# Altium schematic symbol library Sonar_Gonderici_Schlib1.SchLib: 14 symbols
Pins are listed as number, name and electrical type; pins without a type are passive.

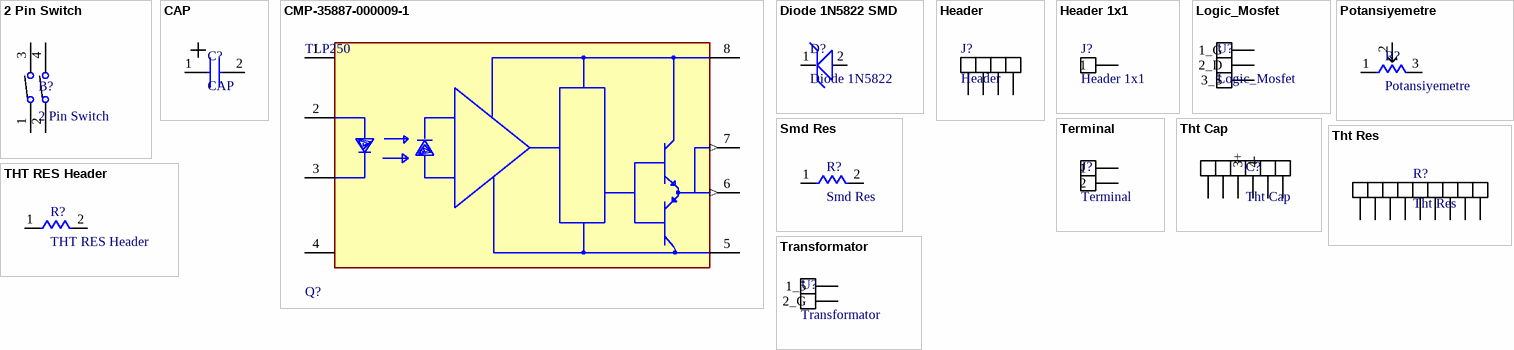
[diagram p0: symbols 2 Pin Switch to Transformator]

## 2 Pin Switch
designator B?
ComponentLink1Description: Satın Alma Linki; ComponentLink1URL: https://www.direnc.net/2-pin-dip-switch
footprint 2 Pin Switch
pins: 1, 2, 3, 4

## CAP
designator C?
Capacitor; ComponentLink1Description: Satın Alma Linki; ComponentLink1URL: https://www.robotistan.com/10nf-seramik-kondansator-paketi-10-adet; ComponentLink2Description: Satın Alma Linki; ComponentLink2URL: https://www.robotistan.com/1nf-seramik-kondansator-paketi-10-adet
footprint Cap 5x10
pins: 1, 2

## CMP-35887-000009-1
designator Q?, comment TLP250
Optocoupler Drive Push-Pull 1-CH 30V 600V 8-Pin PDIP; Manufacturer: TOSHIBA; Standoff Height: 0.55mm; Turn Off Delay Time: 0.15us; Max Junction Temp: +125°C; Power Dissipation: 800mW; Forward Current: 10mA; Reverse Voltage: 5V; Forward Voltage: 1.6V; Isolation Voltage: 2500Vrms; Min Supply Voltage: 10V; ComponentLink2Description: Datasheet; Octopart: https://octopart.com/tlp-250-toshiba-99104964; Automotive: No; Temperature Range High: +85°C; Lead Free: Yes; Package: 11-10C4; Category: Trans; Temperature Range Low: -20°C; Ipc Land Pattern Name: DIP762W50P254L966H445Q8; ComponentLink2URL: https://toshiba.semicon-storage.com/info/docget.jsp?did=16821&prodName=TLP250; Device Class L3: unset; Turn On Delay Time: 0.15us; Device Class L2: Optocouplers; Manufacturer Part Number: TLP250; Max Supply Voltage: 30V; Height: 4.85mm; Device Class L1: Optoelectronics; Temperature: -20°C to +85°C; RoHS: TRUE
footprint FP-11-10C4-MFG
pins: 1 NC, 2 A, 3 C, 4 NC, 5 GND (power), 6 VO(Output) (out), 7 VO (out), 8 VCC (power)

## Diode 1N5822 SMD
designator D?, comment Diode 1N5822
SS34 1N5822 SMD Schottky Diode 3A 40V; ComponentLink1Description: Satın Alma Linki; ComponentLink1URL: https://bbcelektronik.com/diyot-diod-cesitleri/diyot-ve-kopru-diyot/prd-1n5819-1-amper-40-volt-smd-diyot-schottky-diyot-ss14-bbc13770; ComponentLink2Description: Datashhets; ComponentLink2URL: http://www.kesenes.com/pdf/1n5817-1n5819.pdf
footprint Diode
pins: 1, 2

## Header
designator J?
ComponentLink1Description: Satın Alma Linki; ComponentLink1URL: https://www.direnc.net/1x40-precision-disi-header; ComponentLink2Description: Datasheet; ComponentLink2URL: https://www.signal.com.tr/pdf/cat/PH1S15_17_25-2XX-L_U.pdf
footprint Header
pins: 1, 1, 3, 4

## Header 1x1
designator J?
Header; ComponentLink3Description: Satın Alma Linki; ComponentLink3URL: https://www.robotistan.com/1x40-180-12mm
footprint Header 1x1
pins: 1

## Logic_Mosfet
designator U?
ComponentLink1Description: Satın Alma Linki; ComponentLink1URL: https://www.robotistan.com/buz101l-29a-50v-mosfet-logl-logic-level-to220?language=tr&h=3cb70a68; ComponentLink2Description: Satın Alma Linki; ComponentLink2URL: https://www.robolinkmarket.com/buz101l-29a-50v-mosfet-logl-logic-level-to220-mosfet; ComponentLink3Description: Datasheet; ComponentLink3URL: https://www.robolinkmarket.com/Data/EditorFiles/PDF/buz101l.pdf; ComponentLink4Description: Satın Alma Linki; ComponentLink4URL: https://www.direnc.net/3-pin-508mm-disi-gecmeli-klemens-11943; ComponentLink5Description: Satın Alma Linki; ComponentLink5URL: https://www.direnc.net/3-pin-508mm-90-gecmeli-takim-klemens; ComponentLink6Description: Satın Alma Linki; ComponentLink6URL: https://www.direnc.net/irlz44n-d2pak-smd-n-kanal-mosfet; ComponentLink7Description: Datasheet; ComponentLink7URL: https://pdf.direnc.net/upload/irlz44nslpbf-datasheet.pdf
footprint Logic_Mosfet
pins: 1 1_G, 2 2_D, 3 3_S

## Potansiyemetre
designator R?
ComponentLink1Description: Satın Alma Linki; ComponentLink1URL: *; ComponentLink2Description: Datasheet; ComponentLink2URL: *
footprint Potansiyemetre
pins: 1, 2, 3

## Smd Res
designator R?
ComponentLink10Description: Satın Alma Linki; ComponentLink10URL: https://www.direnc.net/47k-5-1w-2512-smd-direnc; ComponentLink11Description: Datasheet; ComponentLink11URL: https://www.resistor.com/assets/pdf/2512std.pdf
footprint RESC1005X40
pins: 1, 2

## Terminal
designator J?
ComponentLink1Description: Satın Alma Linki; ComponentLink1URL: *; ComponentLink2Description: Datasheet; ComponentLink2URL: *
footprint Terminal
pins: 1, 2

## Tht Cap
designator C?
ComponentLink10Description: Satın Alma Linki; ComponentLink10URL: https://www.direnc.net/47uf16v; ComponentLink11Description: Satın Alma Linki; ComponentLink11URL: https://www.direnc.net/2-pin-508mm-90-gecmeli-takim-klemens; ComponentLink12Description: Satın Alma Linki; ComponentLink12URL: https://www.direnc.net/2-pin-508mm-90-erkek-gecmeli-yesil-klemens-1
footprint THT CAP POL
pins: 1, 2, 3 3+, 4 4-, 5, 6

## Tht Res
designator R?
ComponentLink10Description: Satın Alma Linki; ComponentLink10URL: https://www.robolinkmarket.com/1-4w-4r7-direnc-paketi-10-adet?_sgm_campaign=fcs_9ec70268bc000&_sgm_source=5399%7Cproduct&_sgm_action=search&_sgm_term=diren%C3%A7; ComponentLink11Description: Satın Alma Linki; ComponentLink11URL: https://www.direnc.net/2-pin-508mm-90-erkek-gecmeli-yesil-klemens-1; ComponentLink12Description: Satın Alma Linki; ComponentLink12URL: https://www.direnc.net/2-pin-508mm-90-gecmeli-takim-klemens
pins: 1, 2, 3, 4, 5, 6, 7, 8, 9

## THT RES Header
designator R?
THT RES; ComponentLink1Description: Satın Alma Linki; ComponentLink1URL: https://www.robotistan.com/14w-10k-direnc-paketi-10-adet; ComponentLink2Description: Satın Alma Linki; ComponentLink2URL: https://www.robotistan.com/14w-56k-direnc-paketi-10-adet; ComponentLink3Description: Satın Alma Linki; ComponentLink3URL: https://www.robotistan.com/14w-1k-direnc-paketi-10-adet; ComponentLink4Description: Satın Alma Linki; ComponentLink4URL: https://www.robomarket.com.tr/6-2k-direnc-1-adet-1-4w; ComponentLink5Description: Satın Alma Linki; ComponentLink5URL: https://www.robotistan.com/12w-75k-10-adet; ComponentLink6Description: Satın Alma Linki; ComponentLink6URL: https://www.direnc.net/75k-14w-metalfilm-direnc-paketi-100-adet-1?language=tr&h=cb2d2062; ComponentLink7Description: Satın Alma Linki; ComponentLink7URL: https://www.robotistan.com/14w-4k7-direnc-paketi-10-adet; ComponentLink8Description: Satın Alma Linki; ComponentLink8URL: https://www.robotistan.com/2w-120k; ComponentLink9Description: Satın Alma Linki; ComponentLink9URL: https://www.robotistan.com/14w-3k9-direnc-paketi-10-adet?language=tr&h=0f40f5ee&gclid=CjwKCAjwxOCRBhA8EiwA0X8hi8jDuTXAWIdHih4LhQcB3YXTjEJ8OgB0uW3rlfstCae65K6p5gflnBoC2EgQAvD_BwE; ComponentLink10Description: Satın Alma Linki; ComponentLink10URL: https://www.motorobit.com/urun/3-3m-1-4w-direnc-10-adet
footprint Res
pins: 1, 2

## Transformator
designator U?
ComponentLink1Description: Satın Alma Linki; ComponentLink1URL: https://www.direnc.net/2-pin-508mm-90-erkek-gecmeli-yesil-klemens-1; ComponentLink3Description: Satın Alma Linki; ComponentLink3URL: https://www.direnc.net/2-pin-508mm-90-gecmeli-takim-klemens
footprint Transfornator
pins: 1 1_5, 2 2_G